# Altium integrated library TI_Logic_Flip-Flop,Latch,Register.IntLib: 2598 symbols (part 54 of 122)
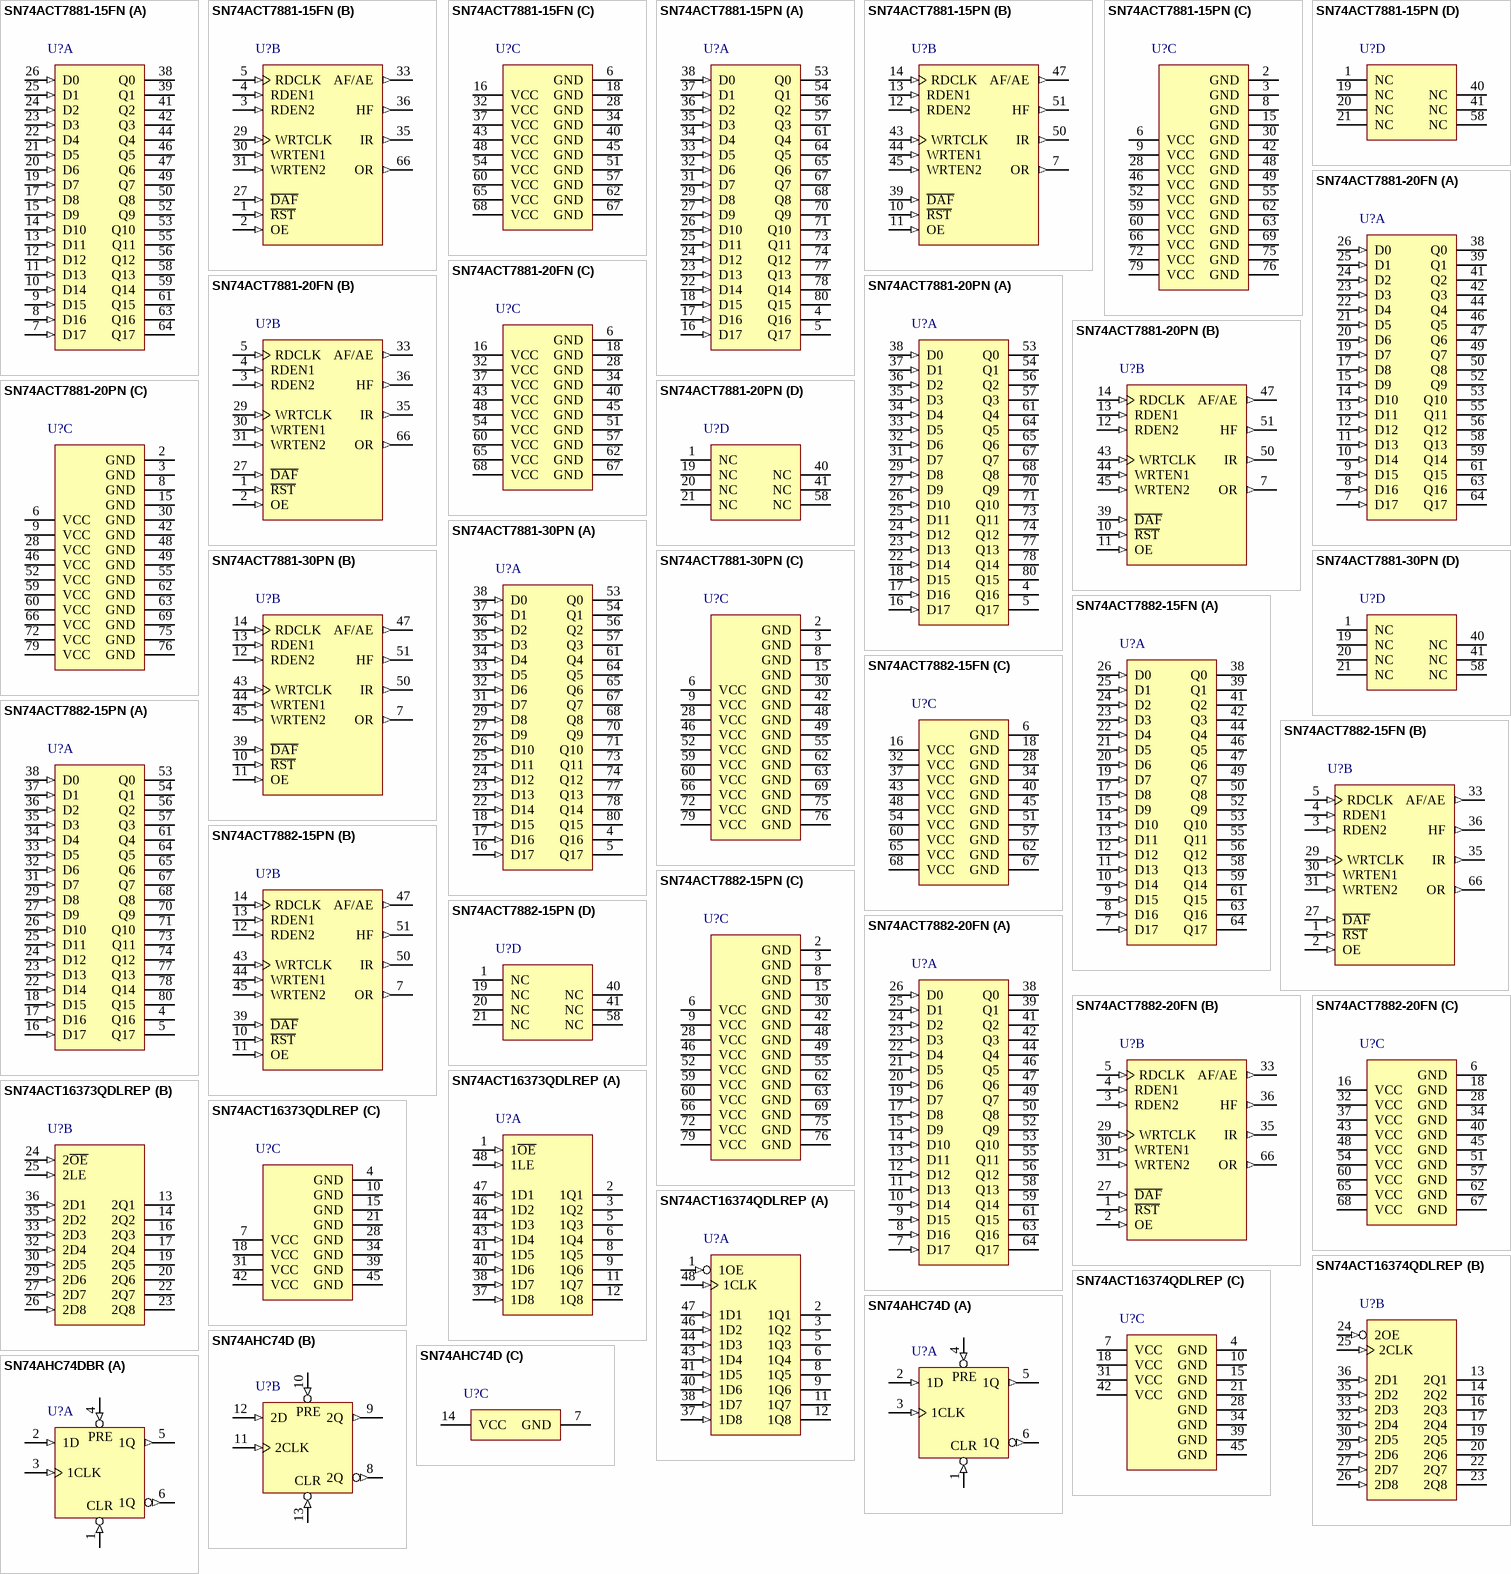
[diagram p192: symbols SN74ACT7881-15FN to SN74AHC74DBR]

## SN74ACT7881-15PN
designator U?
1024 x 18 synchronous FIFO memory, PN0080A, JEDEC TRAY (10+1); Generic Part Number: SN74ACT7881; Manufacturer: Texas Instruments; PartNumber: SN74ACT7881-15PN; Vcc range(V): 4.5 to 5.5; Fmax(MHz): 67; Voltage Nodes(V): 5; Sync/Async: S; Rating: Catalog; Output Drive(mA): -0.5; DatasheetVersion: SCAS227E; PackageReference: PN0080A; Depth: 1024; Width: 18; Code_JEDEC: MS-026; ComponentLink1Description: Manufacturer URL; ComponentLink1URL: http://www.ti.com/; ComponentLink2Description: Datasheet; ComponentLink2URL: http://www.ti.com/lit/ds/symlink/sn74act7881.pdf; ComponentLink3Description: Package Specification; ComponentLink3URL: http://www.ti.com/lit/ml/mtqf010a/mtqf010a.pdf
footprint PN0080A_N (QFP, 80-Leads, Body 12x12mm, Pitch 0.5mm, IPC Medium Density)
footprint PN0080A_M (QFP, 80-Leads, Body 12x12mm, Pitch 0.5mm, IPC Low Density)
footprint PN0080A_L (QFP, 80-Leads, Body 12x12mm, Pitch 0.5mm, IPC High Density)
part A pins: 4 Q16 (hiz) "Data out. The first data word to be loaded into the FIFO is moved to Q0-Q17 on the rising edge of the third RDCLK pulse to occur after the first valid write. RDEN1 and RDEN2 do not affect this operation. Following data is (See Datasheet)", 5 Q17 (hiz) "Data out. The first data word to be loaded into the FIFO is moved to Q0-Q17 on the rising edge of the third RDCLK pulse to occur after the first valid write. RDEN1 and RDEN2 do not affect this operation. Following data is (See Datasheet)", 16 D17 (in) "Data inputs for 18-bit-wide data to be stored in the memory. A high-to-low transition on D\A\F\ captures data for the almost-empty/almost-full offset (X) from D9-D0.", 17 D16 (in) "Data inputs for 18-bit-wide data to be stored in the memory. A high-to-low transition on D\A\F\ captures data for the almost-empty/almost-full offset (X) from D9-D0.", 18 D15 (in) "Data inputs for 18-bit-wide data to be stored in the memory. A high-to-low transition on D\A\F\ captures data for the almost-empty/almost-full offset (X) from D9-D0.", 22 D14 (in) "Data inputs for 18-bit-wide data to be stored in the memory. A high-to-low transition on D\A\F\ captures data for the almost-empty/almost-full offset (X) from D9-D0.", 23 D13 (in) "Data inputs for 18-bit-wide data to be stored in the memory. A high-to-low transition on D\A\F\ captures data for the almost-empty/almost-full offset (X) from D9-D0.", 24 D12 (in) "Data inputs for 18-bit-wide data to be stored in the memory. A high-to-low transition on D\A\F\ captures data for the almost-empty/almost-full offset (X) from D9-D0.", 25 D11 (in) "Data inputs for 18-bit-wide data to be stored in the memory. A high-to-low transition on D\A\F\ captures data for the almost-empty/almost-full offset (X) from D9-D0.", 26 D10 (in) "Data inputs for 18-bit-wide data to be stored in the memory. A high-to-low transition on D\A\F\ captures data for the almost-empty/almost-full offset (X) from D9-D0.", 27 D9 (in) "Data inputs for 18-bit-wide data to be stored in the memory. A high-to-low transition on D\A\F\ captures data for the almost-empty/almost-full offset (X) from D9-D0.", 29 D8 (in) "Data inputs for 18-bit-wide data to be stored in the memory. A high-to-low transition on D\A\F\ captures data for the almost-empty/almost-full offset (X) from D9-D0.", 31 D7 (in) "Data inputs for 18-bit-wide data to be stored in the memory. A high-to-low transition on D\A\F\ captures data for the almost-empty/almost-full offset (X) from D9-D0.", 32 D6 (in) "Data inputs for 18-bit-wide data to be stored in the memory. A high-to-low transition on D\A\F\ captures data for the almost-empty/almost-full offset (X) from D9-D0.", 33 D5 (in) "Data inputs for 18-bit-wide data to be stored in the memory. A high-to-low transition on D\A\F\ captures data for the almost-empty/almost-full offset (X) from D9-D0.", 34 D4 (in) "Data inputs for 18-bit-wide data to be stored in the memory. A high-to-low transition on D\A\F\ captures data for the almost-empty/almost-full offset (X) from D9-D0.", 35 D3 (in) "Data inputs for 18-bit-wide data to be stored in the memory. A high-to-low transition on D\A\F\ captures data for the almost-empty/almost-full offset (X) from D9-D0.", 36 D2 (in) "Data inputs for 18-bit-wide data to be stored in the memory. A high-to-low transition on D\A\F\ captures data for the almost-empty/almost-full offset (X) from D9-D0.", 37 D1 (in) "Data inputs for 18-bit-wide data to be stored in the memory. A high-to-low transition on D\A\F\ captures data for the almost-empty/almost-full offset (X) from D9-D0.", 38 D0 (in) "Data inputs for 18-bit-wide data to be stored in the memory. A high-to-low transition on D\A\F\ captures data for the almost-empty/almost-full offset (X) from D9-D0.", 53 Q0 (hiz) "Data out. The first data word to be loaded into the FIFO is moved to Q0-Q17 on the rising edge of the third RDCLK pulse to occur after the first valid write. RDEN1 and RDEN2 do not affect this operation. Following data is (See Datasheet)", 54 Q1 (hiz) "Data out. The first data word to be loaded into the FIFO is moved to Q0-Q17 on the rising edge of the third RDCLK pulse to occur after the first valid write. RDEN1 and RDEN2 do not affect this operation. Following data is (See Datasheet)", 56 Q2 (hiz) "Data out. The first data word to be loaded into the FIFO is moved to Q0-Q17 on the rising edge of the third RDCLK pulse to occur after the first valid write. RDEN1 and RDEN2 do not affect this operation. Following data is (See Datasheet)", 57 Q3 (hiz) "Data out. The first data word to be loaded into the FIFO is moved to Q0-Q17 on the rising edge of the third RDCLK pulse to occur after the first valid write. RDEN1 and RDEN2 do not affect this operation. Following data is (See Datasheet)", 61 Q4 (hiz) "Data out. The first data word to be loaded into the FIFO is moved to Q0-Q17 on the rising edge of the third RDCLK pulse to occur after the first valid write. RDEN1 and RDEN2 do not affect this operation. Following data is (See Datasheet)", 64 Q5 (hiz) "Data out. The first data word to be loaded into the FIFO is moved to Q0-Q17 on the rising edge of the third RDCLK pulse to occur after the first valid write. RDEN1 and RDEN2 do not affect this operation. Following data is (See Datasheet)", 65 Q6 (hiz) "Data out. The first data word to be loaded into the FIFO is moved to Q0-Q17 on the rising edge of the third RDCLK pulse to occur after the first valid write. RDEN1 and RDEN2 do not affect this operation. Following data is (See Datasheet)", 67 Q7 (hiz) "Data out. The first data word to be loaded into the FIFO is moved to Q0-Q17 on the rising edge of the third RDCLK pulse to occur after the first valid write. RDEN1 and RDEN2 do not affect this operation. Following data is (See Datasheet)", 68 Q8 (hiz) "Data out. The first data word to be loaded into the FIFO is moved to Q0-Q17 on the rising edge of the third RDCLK pulse to occur after the first valid write. RDEN1 and RDEN2 do not affect this operation. Following data is (See Datasheet)", 70 Q9 (hiz) "Data out. The first data word to be loaded into the FIFO is moved to Q0-Q17 on the rising edge of the third RDCLK pulse to occur after the first valid write. RDEN1 and RDEN2 do not affect this operation. Following data is (See Datasheet)", 71 Q10 (hiz) "Data out. The first data word to be loaded into the FIFO is moved to Q0-Q17 on the rising edge of the third RDCLK pulse to occur after the first valid write. RDEN1 and RDEN2 do not affect this operation. Following data is (See Datasheet)", 73 Q11 (hiz) "Data out. The first data word to be loaded into the FIFO is moved to Q0-Q17 on the rising edge of the third RDCLK pulse to occur after the first valid write. RDEN1 and RDEN2 do not affect this operation. Following data is (See Datasheet)", 74 Q12 (hiz) "Data out. The first data word to be loaded into the FIFO is moved to Q0-Q17 on the rising edge of the third RDCLK pulse to occur after the first valid write. RDEN1 and RDEN2 do not affect this operation. Following data is (See Datasheet)", 77 Q13 (hiz) "Data out. The first data word to be loaded into the FIFO is moved to Q0-Q17 on the rising edge of the third RDCLK pulse to occur after the first valid write. RDEN1 and RDEN2 do not affect this operation. Following data is (See Datasheet)", 78 Q14 (hiz) "Data out. The first data word to be loaded into the FIFO is moved to Q0-Q17 on the rising edge of the third RDCLK pulse to occur after the first valid write. RDEN1 and RDEN2 do not affect this operation. Following data is (See Datasheet)", 80 Q15 (hiz) "Data out. The first data word to be loaded into the FIFO is moved to Q0-Q17 on the rising edge of the third RDCLK pulse to occur after the first valid write. RDEN1 and RDEN2 do not affect this operation. Following data is (See Datasheet)"
part B pins: 7 OR (out) "Output-ready flag. OR is high when the FIFO is not empty and low when it is empty. During reset, OR is set low on the rising edge of the third RDCLK pulse. OR is set high on the rising edge of the third RDCLK pulse to occur (See Datasheet)", 10 ~{RST} (in) "Reset. A reset is accomplished by taking R\E\S\E\T\ low and generating a minimum of four RDCLK and WRTCLK cycles. This ensures that the internal read and write pointers are reset and that OR, HF, and IR are low, and AF/AE is (See Datasheet)", 11 OE (in) "Output enable. The Q0-Q17 outputs are in the high-impedance state when OE is low. OE must be high before the rising edge of RDCLK to read a word from memory.", 12 RDEN2 (in) "Read enable. RDEN1 and RDEN2 must be high before a rising edge on RDCLK to read a word out of memory. RDEN1 and RDEN2 are not used to read the first word stored in memory.", 13 RDEN1 (in) "Read enable. RDEN1 and RDEN2 must be high before a rising edge on RDCLK to read a word out of memory. RDEN1 and RDEN2 are not used to read the first word stored in memory.", 14 RDCLK (in) "Read clock. Data is read out of memory on the low-to-high transition at RDCLK if OR, OE, and RDEN1 and RDEN2 are high. RDCLK is a free-running clock and functions as the synchronizing clock for all data transfers out of the (See Datasheet)", 39 ~{DAF} (in) "Define almost-full. The high-to-low transition of D\A\F\ stores the binary value of data inputs as the AF/AE offset value (X). With D\A\F\ held low, a R\E\S\E\T\ cycle defines the AF/AE flag using X.", 43 WRTCLK (in) "Write clock. Data is written into memory on a low-to-high transition of WRTCLK if IR, WRTEN1, and WRTEN2 are high. WRTCLK is a free-running clock and functions as the synchronizing clock for all data transfers into the FIFO. (See Datasheet)", 44 WRTEN1 (in) "Write enable. WRTEN1 and WRTEN2 must be high before a rising edge on WRTCLK for a word to be written into memory. WRTEN1 and WRTEN2 do not affect the storage of the AF/AE offset value (X).", 45 WRTEN2 (in) "Write enable. WRTEN1 and WRTEN2 must be high before a rising edge on WRTCLK for a word to be written into memory. WRTEN1 and WRTEN2 do not affect the storage of the AF/AE offset value (X).", 47 AF/AE (out) "Almost-full/almost-empty flag. The AF/AE boundary is defined by the AF/AE offset value (X). Thisvalue can be programmed during reset or the default value of 256 can be used. AF/AE is high when the number of words in memory (See Datasheet)", 50 IR (out) "Input-ready flag. IR is high when the FIFO is not full and low when the device is full. During reset, IR is driven low on the rising edge of the second WRTCLK pulse. IR then is driven high on the rising edge of the second (See Datasheet)", 51 HF (out) "Half-full flag. HF is high when the FIFO contains 1024 or more words and is low when the number of words in memory is less than half the depth of the FIFO."
part C pins: 2 GND (power), 3 GND (power), 6 VCC (power), 8 GND (power), 9 VCC (power), 15 GND (power), 28 VCC (power), 30 GND (power), 42 GND (power), 46 VCC (power), 48 GND (power), 49 GND (power), 52 VCC (power), 55 GND (power), 59 VCC (power), 60 VCC (power), 62 GND (power), 63 GND (power), 66 VCC (power), 69 GND (power), 72 VCC (power), 75 GND (power), 76 GND (power), 79 VCC (power)
part D pins: 1 NC, 19 NC, 20 NC, 21 NC, 40 NC, 41 NC, 58 NC

## SN74ACT7881-20FN
designator U?
1024 x 18 synchronous FIFO memory, FN0068A, TUBE; Generic Part Number: SN74ACT7881; Manufacturer: Texas Instruments; PartNumber: SN74ACT7881-20FN; Vcc range(V): 4.5 to 5.5; Fmax(MHz): 67; Voltage Nodes(V): 5; Sync/Async: S; Rating: Catalog; Output Drive(mA): -0.5; DatasheetVersion: SCAS227E; PackageReference: FN0068A; Depth: 1024; Width: 18; Code_JEDEC: MS-018; ComponentLink1Description: Manufacturer URL; ComponentLink1URL: http://www.ti.com/; ComponentLink2Description: Datasheet; ComponentLink2URL: http://www.ti.com/lit/ds/symlink/sn74act7881.pdf; ComponentLink3Description: Package Specification; ComponentLink3URL: http://www.ti.com/lit/ml/mplc004a/mplc004a.pdf
footprint FN0068A_N (Leaded Chip Carrier, 68-Leads, Body 24.33x24.33mm, Pitch 1.27mm, IPC Medium Density)
footprint FN0068A_M (Leaded Chip Carrier, 68-Leads, Body 24.33x24.33mm, Pitch 1.27mm, IPC Low Density)
footprint FN0068A_L (Leaded Chip Carrier, 68-Leads, Body 24.33x24.33mm, Pitch 1.27mm, IPC High Density)
part A pins: 7 D17 (in) "Data inputs for 18-bit-wide data to be stored in the memory. A high-to-low transition on D\A\F\ captures data for the almost-empty/almost-full offset (X) from D9-D0.", 8 D16 (in) "Data inputs for 18-bit-wide data to be stored in the memory. A high-to-low transition on D\A\F\ captures data for the almost-empty/almost-full offset (X) from D9-D0.", 9 D15 (in) "Data inputs for 18-bit-wide data to be stored in the memory. A high-to-low transition on D\A\F\ captures data for the almost-empty/almost-full offset (X) from D9-D0.", 10 D14 (in) "Data inputs for 18-bit-wide data to be stored in the memory. A high-to-low transition on D\A\F\ captures data for the almost-empty/almost-full offset (X) from D9-D0.", 11 D13 (in) "Data inputs for 18-bit-wide data to be stored in the memory. A high-to-low transition on D\A\F\ captures data for the almost-empty/almost-full offset (X) from D9-D0.", 12 D12 (in) "Data inputs for 18-bit-wide data to be stored in the memory. A high-to-low transition on D\A\F\ captures data for the almost-empty/almost-full offset (X) from D9-D0.", 13 D11 (in) "Data inputs for 18-bit-wide data to be stored in the memory. A high-to-low transition on D\A\F\ captures data for the almost-empty/almost-full offset (X) from D9-D0.", 14 D10 (in) "Data inputs for 18-bit-wide data to be stored in the memory. A high-to-low transition on D\A\F\ captures data for the almost-empty/almost-full offset (X) from D9-D0.", 15 D9 (in) "Data inputs for 18-bit-wide data to be stored in the memory. A high-to-low transition on D\A\F\ captures data for the almost-empty/almost-full offset (X) from D9-D0.", 17 D8 (in) "Data inputs for 18-bit-wide data to be stored in the memory. A high-to-low transition on D\A\F\ captures data for the almost-empty/almost-full offset (X) from D9-D0.", 19 D7 (in) "Data inputs for 18-bit-wide data to be stored in the memory. A high-to-low transition on D\A\F\ captures data for the almost-empty/almost-full offset (X) from D9-D0.", 20 D6 (in) "Data inputs for 18-bit-wide data to be stored in the memory. A high-to-low transition on D\A\F\ captures data for the almost-empty/almost-full offset (X) from D9-D0.", 21 D5 (in) "Data inputs for 18-bit-wide data to be stored in the memory. A high-to-low transition on D\A\F\ captures data for the almost-empty/almost-full offset (X) from D9-D0.", 22 D4 (in) "Data inputs for 18-bit-wide data to be stored in the memory. A high-to-low transition on D\A\F\ captures data for the almost-empty/almost-full offset (X) from D9-D0.", 23 D3 (in) "Data inputs for 18-bit-wide data to be stored in the memory. A high-to-low transition on D\A\F\ captures data for the almost-empty/almost-full offset (X) from D9-D0.", 24 D2 (in) "Data inputs for 18-bit-wide data to be stored in the memory. A high-to-low transition on D\A\F\ captures data for the almost-empty/almost-full offset (X) from D9-D0.", 25 D1 (in) "Data inputs for 18-bit-wide data to be stored in the memory. A high-to-low transition on D\A\F\ captures data for the almost-empty/almost-full offset (X) from D9-D0.", 26 D0 (in) "Data inputs for 18-bit-wide data to be stored in the memory. A high-to-low transition on D\A\F\ captures data for the almost-empty/almost-full offset (X) from D9-D0.", 38 Q0 (hiz) "Data out. The first data word to be loaded into the FIFO is moved to Q0-Q17 on the rising edge of the third RDCLK pulse to occur after the first valid write. RDEN1 and RDEN2 do not affect this operation. Following data is (See Datasheet)", 39 Q1 (hiz) "Data out. The first data word to be loaded into the FIFO is moved to Q0-Q17 on the rising edge of the third RDCLK pulse to occur after the first valid write. RDEN1 and RDEN2 do not affect this operation. Following data is (See Datasheet)", 41 Q2 (hiz) "Data out. The first data word to be loaded into the FIFO is moved to Q0-Q17 on the rising edge of the third RDCLK pulse to occur after the first valid write. RDEN1 and RDEN2 do not affect this operation. Following data is (See Datasheet)", 42 Q3 (hiz) "Data out. The first data word to be loaded into the FIFO is moved to Q0-Q17 on the rising edge of the third RDCLK pulse to occur after the first valid write. RDEN1 and RDEN2 do not affect this operation. Following data is (See Datasheet)", 44 Q4 (hiz) "Data out. The first data word to be loaded into the FIFO is moved to Q0-Q17 on the rising edge of the third RDCLK pulse to occur after the first valid write. RDEN1 and RDEN2 do not affect this operation. Following data is (See Datasheet)", 46 Q5 (hiz) "Data out. The first data word to be loaded into the FIFO is moved to Q0-Q17 on the rising edge of the third RDCLK pulse to occur after the first valid write. RDEN1 and RDEN2 do not affect this operation. Following data is (See Datasheet)", 47 Q6 (hiz) "Data out. The first data word to be loaded into the FIFO is moved to Q0-Q17 on the rising edge of the third RDCLK pulse to occur after the first valid write. RDEN1 and RDEN2 do not affect this operation. Following data is (See Datasheet)", 49 Q7 (hiz) "Data out. The first data word to be loaded into the FIFO is moved to Q0-Q17 on the rising edge of the third RDCLK pulse to occur after the first valid write. RDEN1 and RDEN2 do not affect this operation. Following data is (See Datasheet)", 50 Q8 (hiz) "Data out. The first data word to be loaded into the FIFO is moved to Q0-Q17 on the rising edge of the third RDCLK pulse to occur after the first valid write. RDEN1 and RDEN2 do not affect this operation. Following data is (See Datasheet)", 52 Q9 (hiz) "Data out. The first data word to be loaded into the FIFO is moved to Q0-Q17 on the rising edge of the third RDCLK pulse to occur after the first valid write. RDEN1 and RDEN2 do not affect this operation. Following data is (See Datasheet)", 53 Q10 (hiz) "Data out. The first data word to be loaded into the FIFO is moved to Q0-Q17 on the rising edge of the third RDCLK pulse to occur after the first valid write. RDEN1 and RDEN2 do not affect this operation. Following data is (See Datasheet)", 55 Q11 (hiz) "Data out. The first data word to be loaded into the FIFO is moved to Q0-Q17 on the rising edge of the third RDCLK pulse to occur after the first valid write. RDEN1 and RDEN2 do not affect this operation. Following data is (See Datasheet)", 56 Q12 (hiz) "Data out. The first data word to be loaded into the FIFO is moved to Q0-Q17 on the rising edge of the third RDCLK pulse to occur after the first valid write. RDEN1 and RDEN2 do not affect this operation. Following data is (See Datasheet)", 58 Q13 (hiz) "Data out. The first data word to be loaded into the FIFO is moved to Q0-Q17 on the rising edge of the third RDCLK pulse to occur after the first valid write. RDEN1 and RDEN2 do not affect this operation. Following data is (See Datasheet)", 59 Q14 (hiz) "Data out. The first data word to be loaded into the FIFO is moved to Q0-Q17 on the rising edge of the third RDCLK pulse to occur after the first valid write. RDEN1 and RDEN2 do not affect this operation. Following data is (See Datasheet)", 61 Q15 (hiz) "Data out. The first data word to be loaded into the FIFO is moved to Q0-Q17 on the rising edge of the third RDCLK pulse to occur after the first valid write. RDEN1 and RDEN2 do not affect this operation. Following data is (See Datasheet)", 63 Q16 (hiz) "Data out. The first data word to be loaded into the FIFO is moved to Q0-Q17 on the rising edge of the third RDCLK pulse to occur after the first valid write. RDEN1 and RDEN2 do not affect this operation. Following data is (See Datasheet)", 64 Q17 (hiz) "Data out. The first data word to be loaded into the FIFO is moved to Q0-Q17 on the rising edge of the third RDCLK pulse to occur after the first valid write. RDEN1 and RDEN2 do not affect this operation. Following data is (See Datasheet)"
part B pins: 1 ~{RST} (in) "Reset. A reset is accomplished by taking R\E\S\E\T\ low and generating a minimum of four RDCLK and WRTCLK cycles. This ensures that the internal read and write pointers are reset and that OR, HF, and IR are low, and AF/AE is (See Datasheet)", 2 OE (in) "Output enable. The Q0-Q17 outputs are in the high-impedance state when OE is low. OE must be high before the rising edge of RDCLK to read a word from memory.", 3 RDEN2 (in) "Read enable. RDEN1 and RDEN2 must be high before a rising edge on RDCLK to read a word out of memory. RDEN1 and RDEN2 are not used to read the first word stored in memory.", 4 RDEN1 (in) "Read enable. RDEN1 and RDEN2 must be high before a rising edge on RDCLK to read a word out of memory. RDEN1 and RDEN2 are not used to read the first word stored in memory.", 5 RDCLK (in) "Read clock. Data is read out of memory on the low-to-high transition at RDCLK if OR, OE, and RDEN1 and RDEN2 are high. RDCLK is a free-running clock and functions as the synchronizing clock for all data transfers out of the (See Datasheet)", 27 ~{DAF} (in) "Define almost-full. The high-to-low transition of D\A\F\ stores the binary value of data inputs as the AF/AE offset value (X). With D\A\F\ held low, a R\E\S\E\T\ cycle defines the AF/AE flag using X.", 29 WRTCLK (in) "Write clock. Data is written into memory on a low-to-high transition of WRTCLK if IR, WRTEN1, and WRTEN2 are high. WRTCLK is a free-running clock and functions as the synchronizing clock for all data transfers into the FIFO. (See Datasheet)", 30 WRTEN1 (in) "Write enable. WRTEN1 and WRTEN2 must be high before a rising edge on WRTCLK for a word to be written into memory. WRTEN1 and WRTEN2 do not affect the storage of the AF/AE offset value (X).", 31 WRTEN2 (in) "Write enable. WRTEN1 and WRTEN2 must be high before a rising edge on WRTCLK for a word to be written into memory. WRTEN1 and WRTEN2 do not affect the storage of the AF/AE offset value (X).", 33 AF/AE (out) "Almost-full/almost-empty flag. The AF/AE boundary is defined by the AF/AE offset value (X). Thisvalue can be programmed during reset or the default value of 256 can be used. AF/AE is high when the number of words in memory (See Datasheet)", 35 IR (out) "Input-ready flag. IR is high when the FIFO is not full and low when the device is full. During reset, IR is driven low on the rising edge of the second WRTCLK pulse. IR then is driven high on the rising edge of the second (See Datasheet)", 36 HF (out) "Half-full flag. HF is high when the FIFO contains 1024 or more words and is low when the number of words in memory is less than half the depth of the FIFO.", 66 OR (out) "Output-ready flag. OR is high when the FIFO is not empty and low when it is empty. During reset, OR is set low on the rising edge of the third RDCLK pulse. OR is set high on the rising edge of the third RDCLK pulse to occur (See Datasheet)"
part C pins: 6 GND (power), 16 VCC (power), 18 GND (power), 28 GND (power), 32 VCC (power), 34 GND (power), 37 VCC (power), 40 GND (power), 43 VCC (power), 45 GND (power), 48 VCC (power), 51 GND (power), 54 VCC (power), 57 GND (power), 60 VCC (power), 62 GND (power), 65 VCC (power), 67 GND (power), 68 VCC (power)

## SN74ACT7881-20PN
designator U?
1024 x 18 synchronous FIFO memory, PN0080A, JEDEC TRAY (10+1); Generic Part Number: SN74ACT7881; Manufacturer: Texas Instruments; PartNumber: SN74ACT7881-20PN; Vcc range(V): 4.5 to 5.5; Fmax(MHz): 67; Voltage Nodes(V): 5; Sync/Async: S; Rating: Catalog; Output Drive(mA): -0.5; DatasheetVersion: SCAS227E; PackageReference: PN0080A; Depth: 1024; Width: 18; Code_JEDEC: MS-026; ComponentLink1Description: Manufacturer URL; ComponentLink1URL: http://www.ti.com/; ComponentLink2Description: Datasheet; ComponentLink2URL: http://www.ti.com/lit/ds/symlink/sn74act7881.pdf; ComponentLink3Description: Package Specification; ComponentLink3URL: http://www.ti.com/lit/ml/mtqf010a/mtqf010a.pdf
footprint PN0080A_N (QFP, 80-Leads, Body 12x12mm, Pitch 0.5mm, IPC Medium Density)
footprint PN0080A_M (QFP, 80-Leads, Body 12x12mm, Pitch 0.5mm, IPC Low Density)
footprint PN0080A_L (QFP, 80-Leads, Body 12x12mm, Pitch 0.5mm, IPC High Density)
part A pins: 4 Q16 (hiz) "Data out. The first data word to be loaded into the FIFO is moved to Q0-Q17 on the rising edge of the third RDCLK pulse to occur after the first valid write. RDEN1 and RDEN2 do not affect this operation. Following data is (See Datasheet)", 5 Q17 (hiz) "Data out. The first data word to be loaded into the FIFO is moved to Q0-Q17 on the rising edge of the third RDCLK pulse to occur after the first valid write. RDEN1 and RDEN2 do not affect this operation. Following data is (See Datasheet)", 16 D17 (in) "Data inputs for 18-bit-wide data to be stored in the memory. A high-to-low transition on D\A\F\ captures data for the almost-empty/almost-full offset (X) from D9-D0.", 17 D16 (in) "Data inputs for 18-bit-wide data to be stored in the memory. A high-to-low transition on D\A\F\ captures data for the almost-empty/almost-full offset (X) from D9-D0.", 18 D15 (in) "Data inputs for 18-bit-wide data to be stored in the memory. A high-to-low transition on D\A\F\ captures data for the almost-empty/almost-full offset (X) from D9-D0.", 22 D14 (in) "Data inputs for 18-bit-wide data to be stored in the memory. A high-to-low transition on D\A\F\ captures data for the almost-empty/almost-full offset (X) from D9-D0.", 23 D13 (in) "Data inputs for 18-bit-wide data to be stored in the memory. A high-to-low transition on D\A\F\ captures data for the almost-empty/almost-full offset (X) from D9-D0.", 24 D12 (in) "Data inputs for 18-bit-wide data to be stored in the memory. A high-to-low transition on D\A\F\ captures data for the almost-empty/almost-full offset (X) from D9-D0.", 25 D11 (in) "Data inputs for 18-bit-wide data to be stored in the memory. A high-to-low transition on D\A\F\ captures data for the almost-empty/almost-full offset (X) from D9-D0.", 26 D10 (in) "Data inputs for 18-bit-wide data to be stored in the memory. A high-to-low transition on D\A\F\ captures data for the almost-empty/almost-full offset (X) from D9-D0.", 27 D9 (in) "Data inputs for 18-bit-wide data to be stored in the memory. A high-to-low transition on D\A\F\ captures data for the almost-empty/almost-full offset (X) from D9-D0.", 29 D8 (in) "Data inputs for 18-bit-wide data to be stored in the memory. A high-to-low transition on D\A\F\ captures data for the almost-empty/almost-full offset (X) from D9-D0.", 31 D7 (in) "Data inputs for 18-bit-wide data to be stored in the memory. A high-to-low transition on D\A\F\ captures data for the almost-empty/almost-full offset (X) from D9-D0.", 32 D6 (in) "Data inputs for 18-bit-wide data to be stored in the memory. A high-to-low transition on D\A\F\ captures data for the almost-empty/almost-full offset (X) from D9-D0.", 33 D5 (in) "Data inputs for 18-bit-wide data to be stored in the memory. A high-to-low transition on D\A\F\ captures data for the almost-empty/almost-full offset (X) from D9-D0.", 34 D4 (in) "Data inputs for 18-bit-wide data to be stored in the memory. A high-to-low transition on D\A\F\ captures data for the almost-empty/almost-full offset (X) from D9-D0.", 35 D3 (in) "Data inputs for 18-bit-wide data to be stored in the memory. A high-to-low transition on D\A\F\ captures data for the almost-empty/almost-full offset (X) from D9-D0.", 36 D2 (in) "Data inputs for 18-bit-wide data to be stored in the memory. A high-to-low transition on D\A\F\ captures data for the almost-empty/almost-full offset (X) from D9-D0.", 37 D1 (in) "Data inputs for 18-bit-wide data to be stored in the memory. A high-to-low transition on D\A\F\ captures data for the almost-empty/almost-full offset (X) from D9-D0.", 38 D0 (in) "Data inputs for 18-bit-wide data to be stored in the memory. A high-to-low transition on D\A\F\ captures data for the almost-empty/almost-full offset (X) from D9-D0.", 53 Q0 (hiz) "Data out. The first data word to be loaded into the FIFO is moved to Q0-Q17 on the rising edge of the third RDCLK pulse to occur after the first valid write. RDEN1 and RDEN2 do not affect this operation. Following data is (See Datasheet)", 54 Q1 (hiz) "Data out. The first data word to be loaded into the FIFO is moved to Q0-Q17 on the rising edge of the third RDCLK pulse to occur after the first valid write. RDEN1 and RDEN2 do not affect this operation. Following data is (See Datasheet)", 56 Q2 (hiz) "Data out. The first data word to be loaded into the FIFO is moved to Q0-Q17 on the rising edge of the third RDCLK pulse to occur after the first valid write. RDEN1 and RDEN2 do not affect this operation. Following data is (See Datasheet)", 57 Q3 (hiz) "Data out. The first data word to be loaded into the FIFO is moved to Q0-Q17 on the rising edge of the third RDCLK pulse to occur after the first valid write. RDEN1 and RDEN2 do not affect this operation. Following data is (See Datasheet)", 61 Q4 (hiz) "Data out. The first data word to be loaded into the FIFO is moved to Q0-Q17 on the rising edge of the third RDCLK pulse to occur after the first valid write. RDEN1 and RDEN2 do not affect this operation. Following data is (See Datasheet)", 64 Q5 (hiz) "Data out. The first data word to be loaded into the FIFO is moved to Q0-Q17 on the rising edge of the third RDCLK pulse to occur after the first valid write. RDEN1 and RDEN2 do not affect this operation. Following data is (See Datasheet)", 65 Q6 (hiz) "Data out. The first data word to be loaded into the FIFO is moved to Q0-Q17 on the rising edge of the third RDCLK pulse to occur after the first valid write. RDEN1 and RDEN2 do not affect this operation. Following data is (See Datasheet)", 67 Q7 (hiz) "Data out. The first data word to be loaded into the FIFO is moved to Q0-Q17 on the rising edge of the third RDCLK pulse to occur after the first valid write. RDEN1 and RDEN2 do not affect this operation. Following data is (See Datasheet)", 68 Q8 (hiz) "Data out. The first data word to be loaded into the FIFO is moved to Q0-Q17 on the rising edge of the third RDCLK pulse to occur after the first valid write. RDEN1 and RDEN2 do not affect this operation. Following data is (See Datasheet)", 70 Q9 (hiz) "Data out. The first data word to be loaded into the FIFO is moved to Q0-Q17 on the rising edge of the third RDCLK pulse to occur after the first valid write. RDEN1 and RDEN2 do not affect this operation. Following data is (See Datasheet)", 71 Q10 (hiz) "Data out. The first data word to be loaded into the FIFO is moved to Q0-Q17 on the rising edge of the third RDCLK pulse to occur after the first valid write. RDEN1 and RDEN2 do not affect this operation. Following data is (See Datasheet)", 73 Q11 (hiz) "Data out. The first data word to be loaded into the FIFO is moved to Q0-Q17 on the rising edge of the third RDCLK pulse to occur after the first valid write. RDEN1 and RDEN2 do not affect this operation. Following data is (See Datasheet)", 74 Q12 (hiz) "Data out. The first data word to be loaded into the FIFO is moved to Q0-Q17 on the rising edge of the third RDCLK pulse to occur after the first valid write. RDEN1 and RDEN2 do not affect this operation. Following data is (See Datasheet)", 77 Q13 (hiz) "Data out. The first data word to be loaded into the FIFO is moved to Q0-Q17 on the rising edge of the third RDCLK pulse to occur after the first valid write. RDEN1 and RDEN2 do not affect this operation. Following data is (See Datasheet)", 78 Q14 (hiz) "Data out. The first data word to be loaded into the FIFO is moved to Q0-Q17 on the rising edge of the third RDCLK pulse to occur after the first valid write. RDEN1 and RDEN2 do not affect this operation. Following data is (See Datasheet)", 80 Q15 (hiz) "Data out. The first data word to be loaded into the FIFO is moved to Q0-Q17 on the rising edge of the third RDCLK pulse to occur after the first valid write. RDEN1 and RDEN2 do not affect this operation. Following data is (See Datasheet)"
part B pins: 7 OR (out) "Output-ready flag. OR is high when the FIFO is not empty and low when it is empty. During reset, OR is set low on the rising edge of the third RDCLK pulse. OR is set high on the rising edge of the third RDCLK pulse to occur (See Datasheet)", 10 ~{RST} (in) "Reset. A reset is accomplished by taking R\E\S\E\T\ low and generating a minimum of four RDCLK and WRTCLK cycles. This ensures that the internal read and write pointers are reset and that OR, HF, and IR are low, and AF/AE is (See Datasheet)", 11 OE (in) "Output enable. The Q0-Q17 outputs are in the high-impedance state when OE is low. OE must be high before the rising edge of RDCLK to read a word from memory.", 12 RDEN2 (in) "Read enable. RDEN1 and RDEN2 must be high before a rising edge on RDCLK to read a word out of memory. RDEN1 and RDEN2 are not used to read the first word stored in memory.", 13 RDEN1 (in) "Read enable. RDEN1 and RDEN2 must be high before a rising edge on RDCLK to read a word out of memory. RDEN1 and RDEN2 are not used to read the first word stored in memory.", 14 RDCLK (in) "Read clock. Data is read out of memory on the low-to-high transition at RDCLK if OR, OE, and RDEN1 and RDEN2 are high. RDCLK is a free-running clock and functions as the synchronizing clock for all data transfers out of the (See Datasheet)", 39 ~{DAF} (in) "Define almost-full. The high-to-low transition of D\A\F\ stores the binary value of data inputs as the AF/AE offset value (X). With D\A\F\ held low, a R\E\S\E\T\ cycle defines the AF/AE flag using X.", 43 WRTCLK (in) "Write clock. Data is written into memory on a low-to-high transition of WRTCLK if IR, WRTEN1, and WRTEN2 are high. WRTCLK is a free-running clock and functions as the synchronizing clock for all data transfers into the FIFO. (See Datasheet)", 44 WRTEN1 (in) "Write enable. WRTEN1 and WRTEN2 must be high before a rising edge on WRTCLK for a word to be written into memory. WRTEN1 and WRTEN2 do not affect the storage of the AF/AE offset value (X).", 45 WRTEN2 (in) "Write enable. WRTEN1 and WRTEN2 must be high before a rising edge on WRTCLK for a word to be written into memory. WRTEN1 and WRTEN2 do not affect the storage of the AF/AE offset value (X).", 47 AF/AE (out) "Almost-full/almost-empty flag. The AF/AE boundary is defined by the AF/AE offset value (X). Thisvalue can be programmed during reset or the default value of 256 can be used. AF/AE is high when the number of words in memory (See Datasheet)", 50 IR (out) "Input-ready flag. IR is high when the FIFO is not full and low when the device is full. During reset, IR is driven low on the rising edge of the second WRTCLK pulse. IR then is driven high on the rising edge of the second (See Datasheet)", 51 HF (out) "Half-full flag. HF is high when the FIFO contains 1024 or more words and is low when the number of words in memory is less than half the depth of the FIFO."
part C pins: 2 GND (power), 3 GND (power), 6 VCC (power), 8 GND (power), 9 VCC (power), 15 GND (power), 28 VCC (power), 30 GND (power), 42 GND (power), 46 VCC (power), 48 GND (power), 49 GND (power), 52 VCC (power), 55 GND (power), 59 VCC (power), 60 VCC (power), 62 GND (power), 63 GND (power), 66 VCC (power), 69 GND (power), 72 VCC (power), 75 GND (power), 76 GND (power), 79 VCC (power)
part D pins: 1 NC, 19 NC, 20 NC, 21 NC, 40 NC, 41 NC, 58 NC

## SN74ACT7881-30PN
designator U?
1024 x 18 synchronous FIFO memory, PN0080A, JEDEC TRAY (10+1); Generic Part Number: SN74ACT7881; Manufacturer: Texas Instruments; PartNumber: SN74ACT7881-30PN; Vcc range(V): 4.5 to 5.5; Fmax(MHz): 67; Voltage Nodes(V): 5; Sync/Async: S; Rating: Catalog; Output Drive(mA): -0.5; DatasheetVersion: SCAS227E; PackageReference: PN0080A; Depth: 1024; Width: 18; Code_JEDEC: MS-026; ComponentLink1Description: Manufacturer URL; ComponentLink1URL: http://www.ti.com/; ComponentLink2Description: Datasheet; ComponentLink2URL: http://www.ti.com/lit/ds/symlink/sn74act7881.pdf; ComponentLink3Description: Package Specification; ComponentLink3URL: http://www.ti.com/lit/ml/mtqf010a/mtqf010a.pdf
footprint PN0080A_N (QFP, 80-Leads, Body 12x12mm, Pitch 0.5mm, IPC Medium Density)
footprint PN0080A_M (QFP, 80-Leads, Body 12x12mm, Pitch 0.5mm, IPC Low Density)
footprint PN0080A_L (QFP, 80-Leads, Body 12x12mm, Pitch 0.5mm, IPC High Density)
part A pins: 4 Q16 (hiz) "Data out. The first data word to be loaded into the FIFO is moved to Q0-Q17 on the rising edge of the third RDCLK pulse to occur after the first valid write. RDEN1 and RDEN2 do not affect this operation. Following data is (See Datasheet)", 5 Q17 (hiz) "Data out. The first data word to be loaded into the FIFO is moved to Q0-Q17 on the rising edge of the third RDCLK pulse to occur after the first valid write. RDEN1 and RDEN2 do not affect this operation. Following data is (See Datasheet)", 16 D17 (in) "Data inputs for 18-bit-wide data to be stored in the memory. A high-to-low transition on D\A\F\ captures data for the almost-empty/almost-full offset (X) from D9-D0.", 17 D16 (in) "Data inputs for 18-bit-wide data to be stored in the memory. A high-to-low transition on D\A\F\ captures data for the almost-empty/almost-full offset (X) from D9-D0.", 18 D15 (in) "Data inputs for 18-bit-wide data to be stored in the memory. A high-to-low transition on D\A\F\ captures data for the almost-empty/almost-full offset (X) from D9-D0.", 22 D14 (in) "Data inputs for 18-bit-wide data to be stored in the memory. A high-to-low transition on D\A\F\ captures data for the almost-empty/almost-full offset (X) from D9-D0.", 23 D13 (in) "Data inputs for 18-bit-wide data to be stored in the memory. A high-to-low transition on D\A\F\ captures data for the almost-empty/almost-full offset (X) from D9-D0.", 24 D12 (in) "Data inputs for 18-bit-wide data to be stored in the memory. A high-to-low transition on D\A\F\ captures data for the almost-empty/almost-full offset (X) from D9-D0.", 25 D11 (in) "Data inputs for 18-bit-wide data to be stored in the memory. A high-to-low transition on D\A\F\ captures data for the almost-empty/almost-full offset (X) from D9-D0.", 26 D10 (in) "Data inputs for 18-bit-wide data to be stored in the memory. A high-to-low transition on D\A\F\ captures data for the almost-empty/almost-full offset (X) from D9-D0.", 27 D9 (in) "Data inputs for 18-bit-wide data to be stored in the memory. A high-to-low transition on D\A\F\ captures data for the almost-empty/almost-full offset (X) from D9-D0.", 29 D8 (in) "Data inputs for 18-bit-wide data to be stored in the memory. A high-to-low transition on D\A\F\ captures data for the almost-empty/almost-full offset (X) from D9-D0.", 31 D7 (in) "Data inputs for 18-bit-wide data to be stored in the memory. A high-to-low transition on D\A\F\ captures data for the almost-empty/almost-full offset (X) from D9-D0.", 32 D6 (in) "Data inputs for 18-bit-wide data to be stored in the memory. A high-to-low transition on D\A\F\ captures data for the almost-empty/almost-full offset (X) from D9-D0.", 33 D5 (in) "Data inputs for 18-bit-wide data to be stored in the memory. A high-to-low transition on D\A\F\ captures data for the almost-empty/almost-full offset (X) from D9-D0.", 34 D4 (in) "Data inputs for 18-bit-wide data to be stored in the memory. A high-to-low transition on D\A\F\ captures data for the almost-empty/almost-full offset (X) from D9-D0.", 35 D3 (in) "Data inputs for 18-bit-wide data to be stored in the memory. A high-to-low transition on D\A\F\ captures data for the almost-empty/almost-full offset (X) from D9-D0.", 36 D2 (in) "Data inputs for 18-bit-wide data to be stored in the memory. A high-to-low transition on D\A\F\ captures data for the almost-empty/almost-full offset (X) from D9-D0.", 37 D1 (in) "Data inputs for 18-bit-wide data to be stored in the memory. A high-to-low transition on D\A\F\ captures data for the almost-empty/almost-full offset (X) from D9-D0.", 38 D0 (in) "Data inputs for 18-bit-wide data to be stored in the memory. A high-to-low transition on D\A\F\ captures data for the almost-empty/almost-full offset (X) from D9-D0.", 53 Q0 (hiz) "Data out. The first data word to be loaded into the FIFO is moved to Q0-Q17 on the rising edge of the third RDCLK pulse to occur after the first valid write. RDEN1 and RDEN2 do not affect this operation. Following data is (See Datasheet)", 54 Q1 (hiz) "Data out. The first data word to be loaded into the FIFO is moved to Q0-Q17 on the rising edge of the third RDCLK pulse to occur after the first valid write. RDEN1 and RDEN2 do not affect this operation. Following data is (See Datasheet)", 56 Q2 (hiz) "Data out. The first data word to be loaded into the FIFO is moved to Q0-Q17 on the rising edge of the third RDCLK pulse to occur after the first valid write. RDEN1 and RDEN2 do not affect this operation. Following data is (See Datasheet)", 57 Q3 (hiz) "Data out. The first data word to be loaded into the FIFO is moved to Q0-Q17 on the rising edge of the third RDCLK pulse to occur after the first valid write. RDEN1 and RDEN2 do not affect this operation. Following data is (See Datasheet)", 61 Q4 (hiz) "Data out. The first data word to be loaded into the FIFO is moved to Q0-Q17 on the rising edge of the third RDCLK pulse to occur after the first valid write. RDEN1 and RDEN2 do not affect this operation. Following data is (See Datasheet)", 64 Q5 (hiz) "Data out. The first data word to be loaded into the FIFO is moved to Q0-Q17 on the rising edge of the third RDCLK pulse to occur after the first valid write. RDEN1 and RDEN2 do not affect this operation. Following data is (See Datasheet)", 65 Q6 (hiz) "Data out. The first data word to be loaded into the FIFO is moved to Q0-Q17 on the rising edge of the third RDCLK pulse to occur after the first valid write. RDEN1 and RDEN2 do not affect this operation. Following data is (See Datasheet)", 67 Q7 (hiz) "Data out. The first data word to be loaded into the FIFO is moved to Q0-Q17 on the rising edge of the third RDCLK pulse to occur after the first valid write. RDEN1 and RDEN2 do not affect this operation. Following data is (See Datasheet)", 68 Q8 (hiz) "Data out. The first data word to be loaded into the FIFO is moved to Q0-Q17 on the rising edge of the third RDCLK pulse to occur after the first valid write. RDEN1 and RDEN2 do not affect this operation. Following data is (See Datasheet)", 70 Q9 (hiz) "Data out. The first data word to be loaded into the FIFO is moved to Q0-Q17 on the rising edge of the third RDCLK pulse to occur after the first valid write. RDEN1 and RDEN2 do not affect this operation. Following data is (See Datasheet)", 71 Q10 (hiz) "Data out. The first data word to be loaded into the FIFO is moved to Q0-Q17 on the rising edge of the third RDCLK pulse to occur after the first valid write. RDEN1 and RDEN2 do not affect this operation. Following data is (See Datasheet)", 73 Q11 (hiz) "Data out. The first data word to be loaded into the FIFO is moved to Q0-Q17 on the rising edge of the third RDCLK pulse to occur after the first valid write. RDEN1 and RDEN2 do not affect this operation. Following data is (See Datasheet)", 74 Q12 (hiz) "Data out. The first data word to be loaded into the FIFO is moved to Q0-Q17 on the rising edge of the third RDCLK pulse to occur after the first valid write. RDEN1 and RDEN2 do not affect this operation. Following data is (See Datasheet)", 77 Q13 (hiz) "Data out. The first data word to be loaded into the FIFO is moved to Q0-Q17 on the rising edge of the third RDCLK pulse to occur after the first valid write. RDEN1 and RDEN2 do not affect this operation. Following data is (See Datasheet)", 78 Q14 (hiz) "Data out. The first data word to be loaded into the FIFO is moved to Q0-Q17 on the rising edge of the third RDCLK pulse to occur after the first valid write. RDEN1 and RDEN2 do not affect this operation. Following data is (See Datasheet)", 80 Q15 (hiz) "Data out. The first data word to be loaded into the FIFO is moved to Q0-Q17 on the rising edge of the third RDCLK pulse to occur after the first valid write. RDEN1 and RDEN2 do not affect this operation. Following data is (See Datasheet)"
part B pins: 7 OR (out) "Output-ready flag. OR is high when the FIFO is not empty and low when it is empty. During reset, OR is set low on the rising edge of the third RDCLK pulse. OR is set high on the rising edge of the third RDCLK pulse to occur (See Datasheet)", 10 ~{RST} (in) "Reset. A reset is accomplished by taking R\E\S\E\T\ low and generating a minimum of four RDCLK and WRTCLK cycles. This ensures that the internal read and write pointers are reset and that OR, HF, and IR are low, and AF/AE is (See Datasheet)", 11 OE (in) "Output enable. The Q0-Q17 outputs are in the high-impedance state when OE is low. OE must be high before the rising edge of RDCLK to read a word from memory.", 12 RDEN2 (in) "Read enable. RDEN1 and RDEN2 must be high before a rising edge on RDCLK to read a word out of memory. RDEN1 and RDEN2 are not used to read the first word stored in memory.", 13 RDEN1 (in) "Read enable. RDEN1 and RDEN2 must be high before a rising edge on RDCLK to read a word out of memory. RDEN1 and RDEN2 are not used to read the first word stored in memory.", 14 RDCLK (in) "Read clock. Data is read out of memory on the low-to-high transition at RDCLK if OR, OE, and RDEN1 and RDEN2 are high. RDCLK is a free-running clock and functions as the synchronizing clock for all data transfers out of the (See Datasheet)", 39 ~{DAF} (in) "Define almost-full. The high-to-low transition of D\A\F\ stores the binary value of data inputs as the AF/AE offset value (X). With D\A\F\ held low, a R\E\S\E\T\ cycle defines the AF/AE flag using X.", 43 WRTCLK (in) "Write clock. Data is written into memory on a low-to-high transition of WRTCLK if IR, WRTEN1, and WRTEN2 are high. WRTCLK is a free-running clock and functions as the synchronizing clock for all data transfers into the FIFO. (See Datasheet)", 44 WRTEN1 (in) "Write enable. WRTEN1 and WRTEN2 must be high before a rising edge on WRTCLK for a word to be written into memory. WRTEN1 and WRTEN2 do not affect the storage of the AF/AE offset value (X).", 45 WRTEN2 (in) "Write enable. WRTEN1 and WRTEN2 must be high before a rising edge on WRTCLK for a word to be written into memory. WRTEN1 and WRTEN2 do not affect the storage of the AF/AE offset value (X).", 47 AF/AE (out) "Almost-full/almost-empty flag. The AF/AE boundary is defined by the AF/AE offset value (X). Thisvalue can be programmed during reset or the default value of 256 can be used. AF/AE is high when the number of words in memory (See Datasheet)", 50 IR (out) "Input-ready flag. IR is high when the FIFO is not full and low when the device is full. During reset, IR is driven low on the rising edge of the second WRTCLK pulse. IR then is driven high on the rising edge of the second (See Datasheet)", 51 HF (out) "Half-full flag. HF is high when the FIFO contains 1024 or more words and is low when the number of words in memory is less than half the depth of the FIFO."
part C pins: 2 GND (power), 3 GND (power), 6 VCC (power), 8 GND (power), 9 VCC (power), 15 GND (power), 28 VCC (power), 30 GND (power), 42 GND (power), 46 VCC (power), 48 GND (power), 49 GND (power), 52 VCC (power), 55 GND (power), 59 VCC (power), 60 VCC (power), 62 GND (power), 63 GND (power), 66 VCC (power), 69 GND (power), 72 VCC (power), 75 GND (power), 76 GND (power), 79 VCC (power)
part D pins: 1 NC, 19 NC, 20 NC, 21 NC, 40 NC, 41 NC, 58 NC